# Altium footprint library 10129381-908002BLF.PcbLib: 1 footprints
Each footprint in its own frame and in the unit in brackets; x right, y up, seen from the top. Pads: shape width x height; smd on the part's side, far side on the other; paste and mask are expansions set on the pad; w line width, h text height; cw(c..) or ccw(c..) is an arc to the next point about the centre after c.
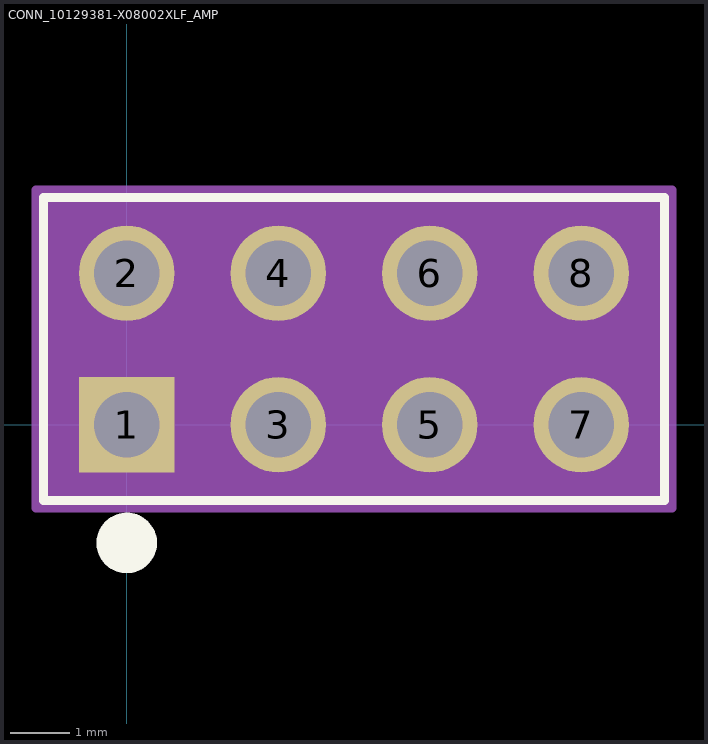
[diagram p0: the footprint, top view; thin cyan lines are the x and y axes]

## CONN_10129381-X08002XLF_AMP [mil]
pads (8):
  rect 63x63 hole 43 paste-99999 mask+0: 1(0,0)
  round 63 hole 43 paste-99999 mask+0: 2(0,100) 3(100,0) 4(100,100) 5(200,0) 6(200,100) 7(300,0) 8(300,100)
Top Overlay:
  circle w20: c0,-78 r10
  lines w6: -55,-50 -55,150 355,150 355,-50 -55,-50
  text ".Designator" at 12.5,25 h50
Mechanical 13:
  circle w1: c0,-30 r10
  lines w1: -50,-45 -50,145 350,145 350,-45 -50,-45
  text ".Designator" at 12.5,25 h50
Mechanical 15:
  region: 360,155 -60,155 -60,-55 360,-55
  lines w6: -60,-55 360,-55 360,155 -60,155 -60,-55
3D body "CONN_10129381-X08002XLF_AMP.step": height 337.99, standoff -200, extent -50,-50 350,150